# Altium footprint library Pattern No3d 20090609.PcbLib: 323 footprints (part 9 of 22)
Each footprint in its own frame and in the unit in brackets; x right, y up, seen from the top. Pads: shape width x height; smd on the part's side, far side on the other; paste and mask are expansions set on the pad; w line width, h text height; cw(c..) or ccw(c..) is an arc to the next point about the centre after c.
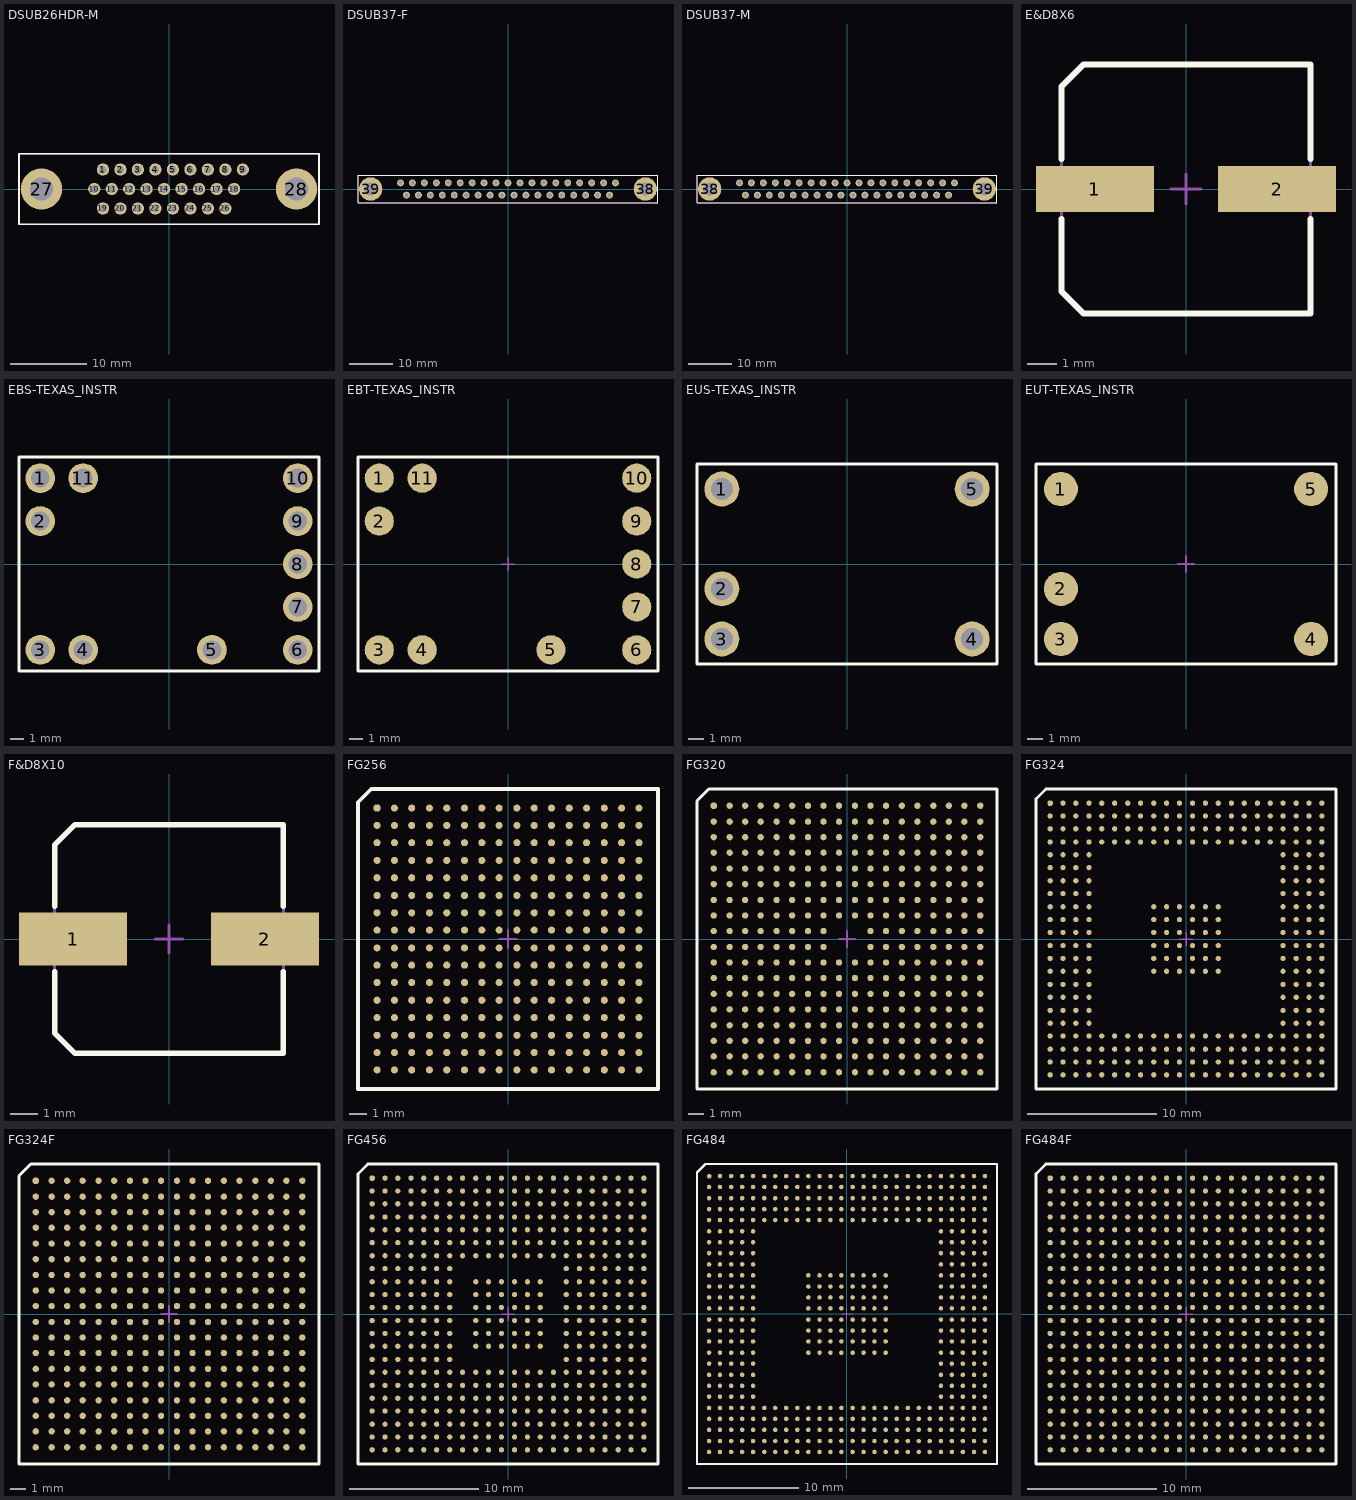
[diagram p8: the footprints below, top view; thin cyan lines are the x and y axes]

## DSUB26HDR-M [mil] "http://www.jst-mfg.com/product/pdf/eng/eD-JK.pdf"
pads (28):
  round 63 hole 39 mask+4: 1(-340,100) 2(-250,100) 3(-160,100) 4(-70,100) 5(20,100) 6(110,100) 7(200,100) 8(290,100) 9(380,100) 10(-385,0) 11(-295,0) 12(-205,0) 13(-115,0) 14(-25,0) 15(65,0) 16(155,0) 17(245,0) 18(335,0) 19(-340,-100) 20(-250,-100) 21(-160,-100) 22(-70,-100) 23(20,-100) 24(110,-100) 25(200,-100) 26(290,-100)
  round 212 hole 120 mask+4: 27(-656,0) 28(656,0)
Top Overlay:
  lines w8: -772,-182 772,-182 772,182 -772,182 -772,-182
Mechanical 1:
  lines w4: -772,-182 772,-182 772,182 -772,182 -772,-182

## DSUB37-F [mil] "http://www.jst-mfg.com/product/pdf/eng/eD-J.pdf"
pads (39):
  round 63 / inner round 63 / far side oval 63x83 hole 39 mask+4: 1(978,56) 2(870,56) 3(761,56) 4(652,56) 5(544,56) 6(435,56) 7(326,56) 8(218,56) 9(109,56) 10(0,56) 11(-109,56) 12(-218,56) 13(-326,56) 14(-435,56) 15(-544,56) 16(-652,56) 17(-761,56) 18(-870,56) 19(-978,56) 20(924,-56) 21(815,-56) 22(707,-56) 23(598,-56) 24(489,-56) 25(381,-56) 26(272,-56) 27(163,-56) 28(55,-56) 29(-55,-56) 30(-163,-56) 31(-272,-56) 32(-381,-56) 33(-489,-56) 34(-598,-56) 35(-707,-56) 36(-815,-56) 37(-924,-56)
  round 212 hole 120 mask+4: 38(1250,0) 39(-1250,0)
Top Overlay:
  lines w8: -1365,-124 1365,-124 1365,124 -1365,124 -1365,-124
Mechanical 1:
  lines w4: -1365,-124 1365,-124 1365,124 -1365,124 -1365,-124

## DSUB37-M [mil] "http://www.jst-mfg.com/product/pdf/eng/eD-J.pdf"
pads (39):
  round 63 / inner round 63 / far side oval 63x83 hole 39 mask+4: 1(-978,56) 2(-870,56) 3(-761,56) 4(-652,56) 5(-544,56) 6(-435,56) 7(-326,56) 8(-218,56) 9(-109,56) 10(0,56) 11(109,56) 12(218,56) 13(326,56) 14(435,56) 15(544,56) 16(652,56) 17(761,56) 18(870,56) 19(978,56) 20(-924,-56) 21(-815,-56) 22(-707,-56) 23(-598,-56) 24(-489,-56) 25(-381,-56) 26(-272,-56) 27(-163,-56) 28(-55,-56) 29(55,-56) 30(163,-56) 31(272,-56) 32(381,-56) 33(489,-56) 34(598,-56) 35(707,-56) 36(815,-56) 37(924,-56)
  round 212 hole 120 mask+4: 38(-1250,0) 39(1250,0)
Top Overlay:
  lines w8: -1365,-124 -1365,124 1365,124 1365,-124 -1365,-124
Mechanical 1:
  lines w4: -1365,-124 -1365,124 1365,124 1365,-124 -1365,-124

## E&D8X6 [mil] "http://www.panasonic.com/industrial/components/pdf/pic_vs_series.pdf (Size E)"
pads (2):
  rect 158x62 smd mask+4: 1(-122,0) 2(122,0)
Top Overlay:
  lines w8: -167,-40 -167,-137 -137,-167 167,-167 167,-40 ; -167,40 -167,137 -137,167 167,167 167,40
Mechanical 1:
  lines w4: -167,-137 -167,137 -137,167 167,167 167,-167 -137,-167 -167,-137
Mechanical 15:
  lines w4: -20,0 20,0 ; 0,-20 0,20

## EBS-TEXAS_INSTR [mil] "http://focus.ti.com/lit/ds/symlink/pth08t240w.pdf (EBS)"
pads (11):
  round 87 hole 55 mask+4: 1(-375,250) 2(-375,125) 3(-375,-250) 4(-250,-250) 5(125,-250) 6(375,-250) 7(375,-125) 8(375,0) 9(375,125) 10(375,250) 11(-250,250)
Top Overlay:
  lines w8: -437,-312 437,-312 437,312 -437,312 -437,-312
Mechanical 1:
  lines w4: -437,-312 437,-312 437,312 -437,312 -437,-312

## EBT-TEXAS_INSTR [mil] "http://focus.ti.com/lit/ds/symlink/pth08t240w.pdf (EBT)"
pads (11):
  round 85 smd mask+4: 1(-375,250) 2(-375,125) 3(-375,-250) 4(-250,-250) 5(125,-250) 6(375,-250) 7(375,-125) 8(375,0) 9(375,125) 10(375,250) 11(-250,250)
Top Overlay:
  lines w8: -437,-312 -437,312 437,312 437,-312 -437,-312
Mechanical 1:
  lines w4: -437,-312 -437,312 437,312 437,-312 -437,-312
Mechanical 15:
  lines w4: -20,0 20,0 ; 0,-20 0,20

## EUS-TEXAS_INSTR [mil] "http://focus.ti.com/lit/ds/symlink/pth03000w.pdf (EUS)"
pads (5):
  round 87 hole 55 mask+4: 1(-312,187) 2(-312,-62) 3(-312,-187) 4(312,-187) 5(312,187)
Top Overlay:
  lines w8: -374,-249 -374,249 374,249 374,-249 -374,-249
Mechanical 1:
  lines w4: -374,-249 -374,249 374,249 374,-249 -374,-249

## EUT-TEXAS_INSTR [mil] "http://focus.ti.com/lit/ds/symlink/pth03000w.pdf (EUT)"
pads (5):
  round 85 smd mask+4: 1(-312,187) 2(-312,-62) 3(-312,-187) 4(312,-187) 5(312,187)
Top Overlay:
  lines w8: -374,-249 -374,249 374,249 374,-249 -374,-249
Mechanical 1:
  lines w4: -374,-249 -374,249 374,249 374,-249 -374,-249
Mechanical 15:
  lines w4: -20,0 20,0 ; 0,-20 0,20

## F&D8X10 [mil] "http://www.panasonic.com/industrial/components/pdf/pic_vs_series.pdf (Size F)"
pads (2):
  rect 158x78 smd mask+4: 1(-140,0) 2(140,0)
Top Overlay:
  lines w8: -167,-48 -167,-137 -137,-167 167,-167 167,-48 ; -167,48 -167,137 -137,167 167,167 167,48
Mechanical 1:
  lines w4: -167,-137 -167,137 -137,167 167,167 167,-167 -137,-167 -167,-137
Mechanical 15:
  lines w4: -20,0 20,0 ; 0,-20 0,20

## FG256 [mil] "http://www.xilinx.com/support/documentation/package_specs/fg256.pdf"
pads (256):
  oct 16x16 smd mask+3: A1(-295,295)
  round 16 smd mask+3: A2(-256,295) A3(-217,295) A4(-177,295) A5(-138,295) A6(-98,295) A7(-59,295) A8(-20,295) A9(20,295) A10(59,295) A11(98,295) A12(138,295) A13(177,295) A14(217,295) A15(256,295) A16(295,295) B1(-295,256) B2(-256,256) B3(-217,256) B4(-177,256) B5(-138,256) B6(-98,256) B7(-59,256) B8(-20,256) B9(20,256) B10(59,256) B11(98,256) B12(138,256) B13(177,256) B14(217,256) B15(256,256) B16(295,256) C1(-295,217) C2(-256,217) C3(-217,217) C4(-177,217) C5(-138,217) C6(-98,217) C7(-59,217) C8(-20,217) C9(20,217) C10(59,217) C11(98,217) C12(138,217) C13(177,217) C14(217,217) C15(256,217) C16(295,217) D1(-295,177) D2(-256,177) D3(-217,177) D4(-177,177) D5(-138,177) D6(-98,177) D7(-59,177) D8(-20,177) D9(20,177) D10(59,177) D11(98,177) D12(138,177) D13(177,177) D14(217,177) D15(256,177) D16(295,177) E1(-295,138) E2(-256,138) E3(-217,138) E4(-177,138) E5(-138,138) E6(-98,138) E7(-59,138) E8(-20,138) E9(20,138) E10(59,138) E11(98,138) E12(138,138) E13(177,138) E14(217,138) E15(256,138) E16(295,138) F1(-295,98) F2(-256,98) F3(-217,98) F4(-177,98) F5(-138,98) F6(-98,98) F7(-59,98) F8(-20,98) F9(20,98) F10(59,98) F11(98,98) F12(138,98) F13(177,98) F14(217,98) F15(256,98) F16(295,98) G1(-295,59) G2(-256,59) G3(-217,59) G4(-177,59) G5(-138,59) G6(-98,59) G7(-59,59) G8(-20,59) G9(20,59) G10(59,59) G11(98,59) G12(138,59) G13(177,59) G14(217,59) G15(256,59) G16(295,59) H1(-295,20) H2(-256,20) H3(-217,20) H4(-177,20) H5(-138,20) H6(-98,20) H7(-59,20) H8(-20,20) H9(20,20) H10(59,20) H11(98,20) H12(138,20) H13(177,20) H14(217,20) H15(256,20) H16(295,20) J1(-295,-20) J2(-256,-20) J3(-217,-20) J4(-177,-20) J5(-138,-20) J6(-98,-20) J7(-59,-20) J8(-20,-20) J9(20,-20) J10(59,-20) J11(98,-20) J12(138,-20) J13(177,-20) J14(217,-20) J15(256,-20) J16(295,-20) K1(-295,-59) K2(-256,-59) K3(-217,-59) K4(-177,-59) K5(-138,-59) K6(-98,-59) K7(-59,-59) K8(-20,-59) K9(20,-59) K10(59,-59) K11(98,-59) K12(138,-59) K13(177,-59) K14(217,-59) K15(256,-59) K16(295,-59) L1(-295,-98) L2(-256,-98) L3(-217,-98) L4(-177,-98) L5(-138,-98) L6(-98,-98) L7(-59,-98) L8(-20,-98) L9(20,-98) L10(59,-98) L11(98,-98) L12(138,-98) L13(177,-98) L14(217,-98) L15(256,-98) L16(295,-98) M1(-295,-138) M2(-256,-138) M3(-217,-138) M4(-177,-138) M5(-138,-138) M6(-98,-138) M7(-59,-138) M8(-20,-138) M9(20,-138) M10(59,-138) M11(98,-138) M12(138,-138) M13(177,-138) M14(217,-138) M15(256,-138) M16(295,-138) N1(-295,-177) N2(-256,-177) N3(-217,-177) N4(-177,-177) N5(-138,-177) N6(-98,-177) N7(-59,-177) N8(-20,-177) N9(20,-177) N10(59,-177) N11(98,-177) N12(138,-177) N13(177,-177) N14(217,-177) N15(256,-177) N16(295,-177) P1(-295,-217) P2(-256,-217) P3(-217,-217) P4(-177,-217) P5(-138,-217) P6(-98,-217) P7(-59,-217) P8(-20,-217) P9(20,-217) P10(59,-217) P11(98,-217) P12(138,-217) P13(177,-217) P14(217,-217) P15(256,-217) P16(295,-217) R1(-295,-256) R2(-256,-256) R3(-217,-256) R4(-177,-256) R5(-138,-256) R6(-98,-256) R7(-59,-256) R8(-20,-256) R9(20,-256) R10(59,-256) R11(98,-256) R12(138,-256) R13(177,-256) R14(217,-256) R15(256,-256) R16(295,-256) T1(-295,-295) T2(-256,-295) T3(-217,-295) T4(-177,-295) T5(-138,-295) T6(-98,-295) T7(-59,-295) T8(-20,-295) T9(20,-295) T10(59,-295) T11(98,-295) T12(138,-295) T13(177,-295) T14(217,-295) T15(256,-295) T16(295,-295)
Top Overlay:
  lines w8: -338,-338 -338,308 -308,338 338,338 338,-338 -338,-338
Mechanical 1:
  lines w4: -338,-338 -338,308 -308,338 338,338 338,-338 -338,-338
Mechanical 15:
  lines w4: -20,0 20,0 ; 0,-20 0,20

## FG320 [mil] "http://www.xilinx.com/support/documentation/package_specs/fg320.pdf"
pads (320):
  oct 16x16 smd mask+3: A1(-335,335)
  round 16 smd mask+3: A2(-295,335) A3(-256,335) A4(-217,335) A5(-177,335) A6(-138,335) A7(-98,335) A8(-59,335) A9(-20,335) A10(20,335) A11(59,335) A12(98,335) A13(138,335) A14(177,335) A15(217,335) A16(256,335) A17(295,335) A18(335,335) B1(-335,295) B2(-295,295) B3(-256,295) B4(-217,295) B5(-177,295) B6(-138,295) B7(-98,295) B8(-59,295) B9(-20,295) B10(20,295) B11(59,295) B12(98,295) B13(138,295) B14(177,295) B15(217,295) B16(256,295) B17(295,295) B18(335,295) C1(-335,256) C2(-295,256) C3(-256,256) C4(-217,256) C5(-177,256) C6(-138,256) C7(-98,256) C8(-59,256) C9(-20,256) C10(20,256) C11(59,256) C12(98,256) C13(138,256) C14(177,256) C15(217,256) C16(256,256) C17(295,256) C18(335,256) D1(-335,217) D2(-295,217) D3(-256,217) D4(-217,217) D5(-177,217) D6(-138,217) D7(-98,217) D8(-59,217) D9(-20,217) D10(20,217) D11(59,217) D12(98,217) D13(138,217) D14(177,217) D15(217,217) D16(256,217) D17(295,217) D18(335,217) E1(-335,177) E2(-295,177) E3(-256,177) E4(-217,177) E5(-177,177) E6(-138,177) E7(-98,177) E8(-59,177) E9(-20,177) E10(20,177) E11(59,177) E12(98,177) E13(138,177) E14(177,177) E15(217,177) E16(256,177) E17(295,177) E18(335,177) F1(-335,138) F2(-295,138) F3(-256,138) F4(-217,138) F5(-177,138) F6(-138,138) F7(-98,138) F8(-59,138) F9(-20,138) F10(20,138) F11(59,138) F12(98,138) F13(138,138) F14(177,138) F15(217,138) F16(256,138) F17(295,138) F18(335,138) G1(-335,98) G2(-295,98) G3(-256,98) G4(-217,98) G5(-177,98) G6(-138,98) G7(-98,98) G8(-59,98) G9(-20,98) G10(20,98) G11(59,98) G12(98,98) G13(138,98) G14(177,98) G15(217,98) G16(256,98) G17(295,98) G18(335,98) H1(-335,59) H2(-295,59) H3(-256,59) H4(-217,59) H5(-177,59) H6(-138,59) H7(-98,59) H8(-59,59) H9(-20,59) H10(20,59) H11(59,59) H12(98,59) H13(138,59) H14(177,59) H15(217,59) H16(256,59) H17(295,59) H18(335,59) J1(-335,20) J2(-295,20) J3(-256,20) J4(-217,20) J5(-177,20) J6(-138,20) J7(-98,20) J8(-59,20) J11(59,20) J12(98,20) J13(138,20) J14(177,20) J15(217,20) J16(256,20) J17(295,20) J18(335,20) K1(-335,-20) K2(-295,-20) K3(-256,-20) K4(-217,-20) K5(-177,-20) K6(-138,-20) K7(-98,-20) K8(-59,-20) K11(59,-20) K12(98,-20) K13(138,-20) K14(177,-20) K15(217,-20) K16(256,-20) K17(295,-20) K18(335,-20) L1(-335,-59) L2(-295,-59) L3(-256,-59) L4(-217,-59) L5(-177,-59) L6(-138,-59) L7(-98,-59) L8(-59,-59) L9(-20,-59) L10(20,-59) L11(59,-59) L12(98,-59) L13(138,-59) L14(177,-59) L15(217,-59) L16(256,-59) L17(295,-59) L18(335,-59) M1(-335,-98) M2(-295,-98) M3(-256,-98) M4(-217,-98) M5(-177,-98) M6(-138,-98) M7(-98,-98) M8(-59,-98) M9(-20,-98) M10(20,-98) M11(59,-98) M12(98,-98) M13(138,-98) M14(177,-98) M15(217,-98) M16(256,-98) M17(295,-98) M18(335,-98) N1(-335,-138) N2(-295,-138) N3(-256,-138) N4(-217,-138) N5(-177,-138) N6(-138,-138) N7(-98,-138) N8(-59,-138) N9(-20,-138) N10(20,-138) N11(59,-138) N12(98,-138) N13(138,-138) N14(177,-138) N15(217,-138) N16(256,-138) N17(295,-138) N18(335,-138) P1(-335,-177) P2(-295,-177) P3(-256,-177) P4(-217,-177) P5(-177,-177) P6(-138,-177) P7(-98,-177) P8(-59,-177) P9(-20,-177) P10(20,-177) P11(59,-177) P12(98,-177) P13(138,-177) P14(177,-177) P15(217,-177) P16(256,-177) P17(295,-177) P18(335,-177) R1(-335,-217) R2(-295,-217) R3(-256,-217) R4(-217,-217) R5(-177,-217) R6(-138,-217) R7(-98,-217) R8(-59,-217) R9(-20,-217) R10(20,-217) R11(59,-217) R12(98,-217) R13(138,-217) R14(177,-217) R15(217,-217) R16(256,-217) R17(295,-217) R18(335,-217) T1(-335,-256) T2(-295,-256) T3(-256,-256) T4(-217,-256) T5(-177,-256) T6(-138,-256) T7(-98,-256) T8(-59,-256) T9(-20,-256) T10(20,-256) T11(59,-256) T12(98,-256) T13(138,-256) T14(177,-256) T15(217,-256) T16(256,-256) T17(295,-256) T18(335,-256) U1(-335,-295) U2(-295,-295) U3(-256,-295) U4(-217,-295) U5(-177,-295) U6(-138,-295) U7(-98,-295) U8(-59,-295) U9(-20,-295) U10(20,-295) U11(59,-295) U12(98,-295) U13(138,-295) U14(177,-295) U15(217,-295) U16(256,-295) U17(295,-295) U18(335,-295) V1(-335,-335) V2(-295,-335) V3(-256,-335) V4(-217,-335) V5(-177,-335) V6(-138,-335) V7(-98,-335) V8(-59,-335) V9(-20,-335) V10(20,-335) V11(59,-335) V12(98,-335) V13(138,-335) V14(177,-335) V15(217,-335) V16(256,-335) V17(295,-335) V18(335,-335)
Top Overlay:
  lines w8: -377,-377 -377,347 -347,377 377,377 377,-377 -377,-377
Mechanical 1:
  lines w4: -377,-377 -377,347 -347,377 377,377 377,-377 -377,-377
Mechanical 15:
  lines w4: -20,0 20,0 ; 0,-20 0,20

## FG324 [mil] "http://www.xilinx.com/support/documentation/package_specs/fg324.pdf"
pads (324):
  oct 16x16 smd mask+3: A1(-413,413)
  round 16 smd mask+3: A2(-374,413) A3(-335,413) A4(-295,413) A5(-256,413) A6(-217,413) A7(-177,413) A8(-138,413) A9(-98,413) A10(-59,413) A11(-20,413) A12(20,413) A13(59,413) A14(98,413) A15(138,413) A16(177,413) A17(217,413) A18(256,413) A19(295,413) A20(335,413) A21(374,413) A22(413,413) AA1(-413,-374) AA2(-374,-374) AA3(-335,-374) AA4(-295,-374) AA5(-256,-374) AA6(-217,-374) AA7(-177,-374) AA8(-138,-374) AA9(-98,-374) AA10(-59,-374) AA11(-20,-374) AA12(20,-374) AA13(59,-374) AA14(98,-374) AA15(138,-374) AA16(177,-374) AA17(217,-374) AA18(256,-374) AA19(295,-374) AA20(335,-374) AA21(374,-374) AA22(413,-374) AB1(-413,-413) AB2(-374,-413) AB3(-335,-413) AB4(-295,-413) AB5(-256,-413) AB6(-217,-413) AB7(-177,-413) AB8(-138,-413) AB9(-98,-413) AB10(-59,-413) AB11(-20,-413) AB12(20,-413) AB13(59,-413) AB14(98,-413) AB15(138,-413) AB16(177,-413) AB17(217,-413) AB18(256,-413) AB19(295,-413) AB20(335,-413) AB21(374,-413) AB22(413,-413) B1(-413,374) B2(-374,374) B3(-335,374) B4(-295,374) B5(-256,374) B6(-217,374) B7(-177,374) B8(-138,374) B9(-98,374) B10(-59,374) B11(-20,374) B12(20,374) B13(59,374) B14(98,374) B15(138,374) B16(177,374) B17(217,374) B18(256,374) B19(295,374) B20(335,374) B21(374,374) B22(413,374) C1(-413,335) C2(-374,335) C3(-335,335) C4(-295,335) C5(-256,335) C6(-217,335) C7(-177,335) C8(-138,335) C9(-98,335) C10(-59,335) C11(-20,335) C12(20,335) C13(59,335) C14(98,335) C15(138,335) C16(177,335) C17(217,335) C18(256,335) C19(295,335) C20(335,335) C21(374,335) C22(413,335) D1(-413,295) D2(-374,295) D3(-335,295) D4(-295,295) D5(-256,295) D6(-217,295) D7(-177,295) D8(-138,295) D9(-98,295) D10(-59,295) D11(-20,295) D12(20,295) D13(59,295) D14(98,295) D15(138,295) D16(177,295) D17(217,295) D18(256,295) D19(295,295) D20(335,295) D21(374,295) D22(413,295) E1(-413,256) E2(-374,256) E3(-335,256) E4(-295,256) E19(295,256) E20(335,256) E21(374,256) E22(413,256) F1(-413,217) F2(-374,217) F3(-335,217) F4(-295,217) F19(295,217) F20(335,217) F21(374,217) F22(413,217) G1(-413,177) G2(-374,177) G3(-335,177) G4(-295,177) G19(295,177) G20(335,177) G21(374,177) G22(413,177) H1(-413,138) H2(-374,138) H3(-335,138) H4(-295,138) H19(295,138) H20(335,138) H21(374,138) H22(413,138) J1(-413,98) J2(-374,98) J3(-335,98) J4(-295,98) J9(-98,98) J10(-59,98) J11(-20,98) J12(20,98) J13(59,98) J14(98,98) J19(295,98) J20(335,98) J21(374,98) J22(413,98) K1(-413,59) K2(-374,59) K3(-335,59) K4(-295,59) K9(-98,59) K10(-59,59) K11(-20,59) K12(20,59) K13(59,59) K14(98,59) K19(295,59) K20(335,59) K21(374,59) K22(413,59) L1(-413,20) L2(-374,20) L3(-335,20) L4(-295,20) L9(-98,20) L10(-59,20) L11(-20,20) L12(20,20) L13(59,20) L14(98,20) L19(295,20) L20(335,20) L21(374,20) L22(413,20) M1(-413,-20) M2(-374,-20) M3(-335,-20) M4(-295,-20) M9(-98,-20) M10(-59,-20) M11(-20,-20) M12(20,-20) M13(59,-20) M14(98,-20) M19(295,-20) M20(335,-20) M21(374,-20) M22(413,-20) N1(-413,-59) N2(-374,-59) N3(-335,-59) N4(-295,-59) N9(-98,-59) N10(-59,-59) N11(-20,-59) N12(20,-59) N13(59,-59) N14(98,-59) N19(295,-59) N20(335,-59) N21(374,-59) N22(413,-59) P1(-413,-98) P2(-374,-98) P3(-335,-98) P4(-295,-98) P9(-98,-98) P10(-59,-98) P11(-20,-98) P12(20,-98) P13(59,-98) P14(98,-98) P19(295,-98) P20(335,-98) P21(374,-98) P22(413,-98) R1(-413,-138) R2(-374,-138) R3(-335,-138) R4(-295,-138) R19(295,-138) R20(335,-138) R21(374,-138) R22(413,-138) T1(-413,-177) T2(-374,-177) T3(-335,-177) T4(-295,-177) T19(295,-177) T20(335,-177) T21(374,-177) T22(413,-177) U1(-413,-217) U2(-374,-217) U3(-335,-217) U4(-295,-217) U19(295,-217) U20(335,-217) U21(374,-217) U22(413,-217) V1(-413,-256) V2(-374,-256) V3(-335,-256) V4(-295,-256) V19(295,-256) V20(335,-256) V21(374,-256) V22(413,-256) W1(-413,-295) W2(-374,-295) W3(-335,-295) W4(-295,-295) W5(-256,-295) W6(-217,-295) W7(-177,-295) W8(-138,-295) W9(-98,-295) W10(-59,-295) W11(-20,-295) W12(20,-295) W13(59,-295) W14(98,-295) W15(138,-295) W16(177,-295) W17(217,-295) W18(256,-295) W19(295,-295) W20(335,-295) W21(374,-295) W22(413,-295) Y1(-413,-335) Y2(-374,-335) Y3(-335,-335) Y4(-295,-335) Y5(-256,-335) Y6(-217,-335) Y7(-177,-335) Y8(-138,-335) Y9(-98,-335) Y10(-59,-335) Y11(-20,-335) Y12(20,-335) Y13(59,-335) Y14(98,-335) Y15(138,-335) Y16(177,-335) Y17(217,-335) Y18(256,-335) Y19(295,-335) Y20(335,-335) Y21(374,-335) Y22(413,-335)
Top Overlay:
  lines w8: -456,-456 -456,426 -426,456 456,456 456,-456 -456,-456
Mechanical 1:
  lines w4: -456,-456 -456,426 -426,456 456,456 456,-456 -456,-456
Mechanical 15:
  lines w4: -20,0 20,0 ; 0,-20 0,20

## FG324F [mil] "http://www.xilinx.com/support/documentation/package_specs/ff324.pdf"
pads (324):
  oct 16x16 smd mask+3: A1(-335,335)
  round 16 smd mask+3: A2(-295,335) A3(-256,335) A4(-217,335) A5(-177,335) A6(-138,335) A7(-98,335) A8(-59,335) A9(-20,335) A10(20,335) A11(59,335) A12(98,335) A13(138,335) A14(177,335) A15(217,335) A16(256,335) A17(295,335) A18(335,335) B1(-335,295) B2(-295,295) B3(-256,295) B4(-217,295) B5(-177,295) B6(-138,295) B7(-98,295) B8(-59,295) B9(-20,295) B10(20,295) B11(59,295) B12(98,295) B13(138,295) B14(177,295) B15(217,295) B16(256,295) B17(295,295) B18(335,295) C1(-335,256) C2(-295,256) C3(-256,256) C4(-217,256) C5(-177,256) C6(-138,256) C7(-98,256) C8(-59,256) C9(-20,256) C10(20,256) C11(59,256) C12(98,256) C13(138,256) C14(177,256) C15(217,256) C16(256,256) C17(295,256) C18(335,256) D1(-335,217) D2(-295,217) D3(-256,217) D4(-217,217) D5(-177,217) D6(-138,217) D7(-98,217) D8(-59,217) D9(-20,217) D10(20,217) D11(59,217) D12(98,217) D13(138,217) D14(177,217) D15(217,217) D16(256,217) D17(295,217) D18(335,217) E1(-335,177) E2(-295,177) E3(-256,177) E4(-217,177) E5(-177,177) E6(-138,177) E7(-98,177) E8(-59,177) E9(-20,177) E10(20,177) E11(59,177) E12(98,177) E13(138,177) E14(177,177) E15(217,177) E16(256,177) E17(295,177) E18(335,177) F1(-335,138) F2(-295,138) F3(-256,138) F4(-217,138) F5(-177,138) F6(-138,138) F7(-98,138) F8(-59,138) F9(-20,138) F10(20,138) F11(59,138) F12(98,138) F13(138,138) F14(177,138) F15(217,138) F16(256,138) F17(295,138) F18(335,138) G1(-335,98) G2(-295,98) G3(-256,98) G4(-217,98) G5(-177,98) G6(-138,98) G7(-98,98) G8(-59,98) G9(-20,98) G10(20,98) G11(59,98) G12(98,98) G13(138,98) G14(177,98) G15(217,98) G16(256,98) G17(295,98) G18(335,98) H1(-335,59) H2(-295,59) H3(-256,59) H4(-217,59) H5(-177,59) H6(-138,59) H7(-98,59) H8(-59,59) H9(-20,59) H10(20,59) H11(59,59) H12(98,59) H13(138,59) H14(177,59) H15(217,59) H16(256,59) H17(295,59) H18(335,59) J1(-335,20) J2(-295,20) J3(-256,20) J4(-217,20) J5(-177,20) J6(-138,20) J7(-98,20) J8(-59,20) J9(-20,20) J10(20,20) J11(59,20) J12(98,20) J13(138,20) J14(177,20) J15(217,20) J16(256,20) J17(295,20) J18(335,20) K1(-335,-20) K2(-295,-20) K3(-256,-20) K4(-217,-20) K5(-177,-20) K6(-138,-20) K7(-98,-20) K8(-59,-20) K9(-20,-20) K10(20,-20) K11(59,-20) K12(98,-20) K13(138,-20) K14(177,-20) K15(217,-20) K16(256,-20) K17(295,-20) K18(335,-20) L1(-335,-59) L2(-295,-59) L3(-256,-59) L4(-217,-59) L5(-177,-59) L6(-138,-59) L7(-98,-59) L8(-59,-59) L9(-20,-59) L10(20,-59) L11(59,-59) L12(98,-59) L13(138,-59) L14(177,-59) L15(217,-59) L16(256,-59) L17(295,-59) L18(335,-59) M1(-335,-98) M2(-295,-98) M3(-256,-98) M4(-217,-98) M5(-177,-98) M6(-138,-98) M7(-98,-98) M8(-59,-98) M9(-20,-98) M10(20,-98) M11(59,-98) M12(98,-98) M13(138,-98) M14(177,-98) M15(217,-98) M16(256,-98) M17(295,-98) M18(335,-98) N1(-335,-138) N2(-295,-138) N3(-256,-138) N4(-217,-138) N5(-177,-138) N6(-138,-138) N7(-98,-138) N8(-59,-138) N9(-20,-138) N10(20,-138) N11(59,-138) N12(98,-138) N13(138,-138) N14(177,-138) N15(217,-138) N16(256,-138) N17(295,-138) N18(335,-138) P1(-335,-177) P2(-295,-177) P3(-256,-177) P4(-217,-177) P5(-177,-177) P6(-138,-177) P7(-98,-177) P8(-59,-177) P9(-20,-177) P10(20,-177) P11(59,-177) P12(98,-177) P13(138,-177) P14(177,-177) P15(217,-177) P16(256,-177) P17(295,-177) P18(335,-177) R1(-335,-217) R2(-295,-217) R3(-256,-217) R4(-217,-217) R5(-177,-217) R6(-138,-217) R7(-98,-217) R8(-59,-217) R9(-20,-217) R10(20,-217) R11(59,-217) R12(98,-217) R13(138,-217) R14(177,-217) R15(217,-217) R16(256,-217) R17(295,-217) R18(335,-217) T1(-335,-256) T2(-295,-256) T3(-256,-256) T4(-217,-256) T5(-177,-256) T6(-138,-256) T7(-98,-256) T8(-59,-256) T9(-20,-256) T10(20,-256) T11(59,-256) T12(98,-256) T13(138,-256) T14(177,-256) T15(217,-256) T16(256,-256) T17(295,-256) T18(335,-256) U1(-335,-295) U2(-295,-295) U3(-256,-295) U4(-217,-295) U5(-177,-295) U6(-138,-295) U7(-98,-295) U8(-59,-295) U9(-20,-295) U10(20,-295) U11(59,-295) U12(98,-295) U13(138,-295) U14(177,-295) U15(217,-295) U16(256,-295) U17(295,-295) U18(335,-295) V1(-335,-335) V2(-295,-335) V3(-256,-335) V4(-217,-335) V5(-177,-335) V6(-138,-335) V7(-98,-335) V8(-59,-335) V9(-20,-335) V10(20,-335) V11(59,-335) V12(98,-335) V13(138,-335) V14(177,-335) V15(217,-335) V16(256,-335) V17(295,-335) V18(335,-335)
Top Overlay:
  lines w8: -377,-377 377,-377 377,377 -347,377 -377,347 -377,-377
Mechanical 1:
  lines w4: -377,-377 377,-377 377,377 -347,377 -377,347 -377,-377
Mechanical 15:
  lines w4: -20,0 20,0 ; 0,-20 0,20

## FG456 [mil] "http://www.xilinx.com/support/documentation/package_specs/fg456.pdf"
pads (456):
  oct 16x16 smd mask+3: A1(-413,413)
  round 16 smd mask+3: A2(-374,413) A3(-335,413) A4(-295,413) A5(-256,413) A6(-217,413) A7(-177,413) A8(-138,413) A9(-98,413) A10(-59,413) A11(-20,413) A12(20,413) A13(59,413) A14(98,413) A15(138,413) A16(177,413) A17(217,413) A18(256,413) A19(295,413) A20(335,413) A21(374,413) A22(413,413) AA1(-413,-374) AA2(-374,-374) AA3(-335,-374) AA4(-295,-374) AA5(-256,-374) AA6(-217,-374) AA7(-177,-374) AA8(-138,-374) AA9(-98,-374) AA10(-59,-374) AA11(-20,-374) AA12(20,-374) AA13(59,-374) AA14(98,-374) AA15(138,-374) AA16(177,-374) AA17(217,-374) AA18(256,-374) AA19(295,-374) AA20(335,-374) AA21(374,-374) AA22(413,-374) AB1(-413,-413) AB2(-374,-413) AB3(-335,-413) AB4(-295,-413) AB5(-256,-413) AB6(-217,-413) AB7(-177,-413) AB8(-138,-413) AB9(-98,-413) AB10(-59,-413) AB11(-20,-413) AB12(20,-413) AB13(59,-413) AB14(98,-413) AB15(138,-413) AB16(177,-413) AB17(217,-413) AB18(256,-413) AB19(295,-413) AB20(335,-413) AB21(374,-413) AB22(413,-413) B1(-413,374) B2(-374,374) B3(-335,374) B4(-295,374) B5(-256,374) B6(-217,374) B7(-177,374) B8(-138,374) B9(-98,374) B10(-59,374) B11(-20,374) B12(20,374) B13(59,374) B14(98,374) B15(138,374) B16(177,374) B17(217,374) B18(256,374) B19(295,374) B20(335,374) B21(374,374) B22(413,374) C1(-413,335) C2(-374,335) C3(-335,335) C4(-295,335) C5(-256,335) C6(-217,335) C7(-177,335) C8(-138,335) C9(-98,335) C10(-59,335) C11(-20,335) C12(20,335) C13(59,335) C14(98,335) C15(138,335) C16(177,335) C17(217,335) C18(256,335) C19(295,335) C20(335,335) C21(374,335) C22(413,335) D1(-413,295) D2(-374,295) D3(-335,295) D4(-295,295) D5(-256,295) D6(-217,295) D7(-177,295) D8(-138,295) D9(-98,295) D10(-59,295) D11(-20,295) D12(20,295) D13(59,295) D14(98,295) D15(138,295) D16(177,295) D17(217,295) D18(256,295) D19(295,295) D20(335,295) D21(374,295) D22(413,295) E1(-413,256) E2(-374,256) E3(-335,256) E4(-295,256) E5(-256,256) E6(-217,256) E7(-177,256) E8(-138,256) E9(-98,256) E10(-59,256) E11(-20,256) E12(20,256) E13(59,256) E14(98,256) E15(138,256) E16(177,256) E17(217,256) E18(256,256) E19(295,256) E20(335,256) E21(374,256) E22(413,256) F1(-413,217) F2(-374,217) F3(-335,217) F4(-295,217) F5(-256,217) F6(-217,217) F7(-177,217) F8(-138,217) F9(-98,217) F10(-59,217) F11(-20,217) F12(20,217) F13(59,217) F14(98,217) F15(138,217) F16(177,217) F17(217,217) F18(256,217) F19(295,217) F20(335,217) F21(374,217) F22(413,217) G1(-413,177) G2(-374,177) G3(-335,177) G4(-295,177) G5(-256,177) G6(-217,177) G7(-177,177) G8(-138,177) G9(-98,177) G10(-59,177) G11(-20,177) G12(20,177) G13(59,177) G14(98,177) G15(138,177) G16(177,177) G17(217,177) G18(256,177) G19(295,177) G20(335,177) G21(374,177) G22(413,177) H1(-413,138) H2(-374,138) H3(-335,138) H4(-295,138) H5(-256,138) H6(-217,138) H7(-177,138) H16(177,138) H17(217,138) H18(256,138) H19(295,138) H20(335,138) H21(374,138) H22(413,138) J1(-413,98) J2(-374,98) J3(-335,98) J4(-295,98) J5(-256,98) J6(-217,98) J7(-177,98) J9(-98,98) J10(-59,98) J11(-20,98) J12(20,98) J13(59,98) J14(98,98) J16(177,98) J17(217,98) J18(256,98) J19(295,98) J20(335,98) J21(374,98) J22(413,98) K1(-413,59) K2(-374,59) K3(-335,59) K4(-295,59) K5(-256,59) K6(-217,59) K7(-177,59) K9(-98,59) K10(-59,59) K11(-20,59) K12(20,59) K13(59,59) K14(98,59) K16(177,59) K17(217,59) K18(256,59) K19(295,59) K20(335,59) K21(374,59) K22(413,59) L1(-413,20) L2(-374,20) L3(-335,20) L4(-295,20) L5(-256,20) L6(-217,20) L7(-177,20) L9(-98,20) L10(-59,20) L11(-20,20) L12(20,20) L13(59,20) L14(98,20) L16(177,20) L17(217,20) L18(256,20) L19(295,20) L20(335,20) L21(374,20) L22(413,20) M1(-413,-20) M2(-374,-20) M3(-335,-20) M4(-295,-20) M5(-256,-20) M6(-217,-20) M7(-177,-20) M9(-98,-20) M10(-59,-20) M11(-20,-20) M12(20,-20) M13(59,-20) M14(98,-20) M16(177,-20) M17(217,-20) M18(256,-20) M19(295,-20) M20(335,-20) M21(374,-20) M22(413,-20) N1(-413,-59) N2(-374,-59) N3(-335,-59) N4(-295,-59) N5(-256,-59) N6(-217,-59) N7(-177,-59) N9(-98,-59) N10(-59,-59) N11(-20,-59) N12(20,-59) N13(59,-59) N14(98,-59) N16(177,-59) N17(217,-59) N18(256,-59) N19(295,-59) N20(335,-59) N21(374,-59) N22(413,-59) P1(-413,-98) P2(-374,-98) P3(-335,-98) P4(-295,-98) P5(-256,-98) P6(-217,-98) P7(-177,-98) P9(-98,-98) P10(-59,-98) P11(-20,-98) P12(20,-98) P13(59,-98) P14(98,-98) P16(177,-98) P17(217,-98) P18(256,-98) P19(295,-98) P20(335,-98) P21(374,-98) P22(413,-98) R1(-413,-138) R2(-374,-138) R3(-335,-138) R4(-295,-138) R5(-256,-138) R6(-217,-138) R7(-177,-138) R16(177,-138) R17(217,-138) R18(256,-138) R19(295,-138) R20(335,-138) R21(374,-138) R22(413,-138) T1(-413,-177) T2(-374,-177) T3(-335,-177) T4(-295,-177) T5(-256,-177) T6(-217,-177) T7(-177,-177) T8(-138,-177) T9(-98,-177) T10(-59,-177) T11(-20,-177) T12(20,-177) T13(59,-177) T14(98,-177) T15(138,-177) T16(177,-177) T17(217,-177) T18(256,-177) T19(295,-177) T20(335,-177) T21(374,-177) T22(413,-177) U1(-413,-217) U2(-374,-217) U3(-335,-217) U4(-295,-217) U5(-256,-217) U6(-217,-217) U7(-177,-217) U8(-138,-217) U9(-98,-217) U10(-59,-217) U11(-20,-217) U12(20,-217) U13(59,-217) U14(98,-217) U15(138,-217) U16(177,-217) U17(217,-217) U18(256,-217) U19(295,-217) U20(335,-217) U21(374,-217) U22(413,-217) V1(-413,-256) V2(-374,-256) V3(-335,-256) V4(-295,-256) V5(-256,-256) V6(-217,-256) V7(-177,-256) V8(-138,-256) V9(-98,-256) V10(-59,-256) V11(-20,-256) V12(20,-256) V13(59,-256) V14(98,-256) V15(138,-256) V16(177,-256) V17(217,-256) V18(256,-256) V19(295,-256) V20(335,-256) V21(374,-256) V22(413,-256) W1(-413,-295) W2(-374,-295) W3(-335,-295) W4(-295,-295) W5(-256,-295) W6(-217,-295) W7(-177,-295) W8(-138,-295) W9(-98,-295) W10(-59,-295) W11(-20,-295) W12(20,-295) W13(59,-295) W14(98,-295) W15(138,-295) W16(177,-295) W17(217,-295) W18(256,-295) W19(295,-295) W20(335,-295) W21(374,-295) W22(413,-295) Y1(-413,-335) Y2(-374,-335) Y3(-335,-335) Y4(-295,-335) Y5(-256,-335) Y6(-217,-335) Y7(-177,-335) Y8(-138,-335) Y9(-98,-335) Y10(-59,-335) Y11(-20,-335) Y12(20,-335) Y13(59,-335) Y14(98,-335) Y15(138,-335) Y16(177,-335) Y17(217,-335) Y18(256,-335) Y19(295,-335) Y20(335,-335) Y21(374,-335) Y22(413,-335)
Top Overlay:
  lines w8: -456,-456 456,-456 456,456 -426,456 -456,426 -456,-456
Mechanical 1:
  lines w4: -456,-456 456,-456 456,456 -426,456 -456,426 -456,-456
Mechanical 15:
  lines w4: -20,0 20,0 ; 0,-20 0,20

## FG484 [mil] "http://www.actel.com/documents/PckgMechDrwngs.pdf (FBGA 484)"
pads (484):
  oct 16x16 smd mask+3: A1(-492,492)
  round 16 smd mask+3: A2(-453,492) A3(-413,492) A4(-374,492) A5(-335,492) A6(-295,492) A7(-256,492) A8(-217,492) A9(-177,492) A10(-138,492) A11(-98,492) A12(-59,492) A13(-20,492) A14(20,492) A15(59,492) A16(98,492) A17(138,492) A18(177,492) A19(217,492) A20(256,492) A21(295,492) A22(335,492) A23(374,492) A24(413,492) A25(453,492) A26(492,492) AA1(-492,-295) AA2(-453,-295) AA3(-413,-295) AA4(-374,-295) AA5(-335,-295) AA22(335,-295) AA23(374,-295) AA24(413,-295) AA25(453,-295) AA26(492,-295) AB1(-492,-335) AB2(-453,-335) AB3(-413,-335) AB4(-374,-335) AB5(-335,-335) AB6(-295,-335) AB7(-256,-335) AB8(-217,-335) AB9(-177,-335) AB10(-138,-335) AB11(-98,-335) AB12(-59,-335) AB13(-20,-335) AB14(20,-335) AB15(59,-335) AB16(98,-335) AB17(138,-335) AB18(177,-335) AB19(217,-335) AB20(256,-335) AB21(295,-335) AB22(335,-335) AB23(374,-335) AB24(413,-335) AB25(453,-335) AB26(492,-335) AC1(-492,-374) AC2(-453,-374) AC3(-413,-374) AC4(-374,-374) AC5(-335,-374) AC6(-295,-374) AC7(-256,-374) AC8(-217,-374) AC9(-177,-374) AC10(-138,-374) AC11(-98,-374) AC12(-59,-374) AC13(-20,-374) AC14(20,-374) AC15(59,-374) AC16(98,-374) AC17(138,-374) AC18(177,-374) AC19(217,-374) AC20(256,-374) AC21(295,-374) AC22(335,-374) AC23(374,-374) AC24(413,-374) AC25(453,-374) AC26(492,-374) AD1(-492,-413) AD2(-453,-413) AD3(-413,-413) AD4(-374,-413) AD5(-335,-413) AD6(-295,-413) AD7(-256,-413) AD8(-217,-413) AD9(-177,-413) AD10(-138,-413) AD11(-98,-413) AD12(-59,-413) AD13(-20,-413) AD14(20,-413) AD15(59,-413) AD16(98,-413) AD17(138,-413) AD18(177,-413) AD19(217,-413) AD20(256,-413) AD21(295,-413) AD22(335,-413) AD23(374,-413) AD24(413,-413) AD25(453,-413) AD26(492,-413) AE1(-492,-453) AE2(-453,-453) AE3(-413,-453) AE4(-374,-453) AE5(-335,-453) AE6(-295,-453) AE7(-256,-453) AE8(-217,-453) AE9(-177,-453) AE10(-138,-453) AE11(-98,-453) AE12(-59,-453) AE13(-20,-453) AE14(20,-453) AE15(59,-453) AE16(98,-453) AE17(138,-453) AE18(177,-453) AE19(217,-453) AE20(256,-453) AE21(295,-453) AE22(335,-453) AE23(374,-453) AE24(413,-453) AE25(453,-453) AE26(492,-453) AF1(-492,-492) AF2(-453,-492) AF3(-413,-492) AF4(-374,-492) AF5(-335,-492) AF6(-295,-492) AF7(-256,-492) AF8(-217,-492) AF9(-177,-492) AF10(-138,-492) AF11(-98,-492) AF12(-59,-492) AF13(-20,-492) AF14(20,-492) AF15(59,-492) AF16(98,-492) AF17(138,-492) AF18(177,-492) AF19(217,-492) AF20(256,-492) AF21(295,-492) AF22(335,-492) AF23(374,-492) AF24(413,-492) AF25(453,-492) AF26(492,-492) B1(-492,453) B2(-453,453) B3(-413,453) B4(-374,453) B5(-335,453) B6(-295,453) B7(-256,453) B8(-217,453) B9(-177,453) B10(-138,453) B11(-98,453) B12(-59,453) B13(-20,453) B14(20,453) B15(59,453) B16(98,453) B17(138,453) B18(177,453) B19(217,453) B20(256,453) B21(295,453) B22(335,453) B23(374,453) B24(413,453) B25(453,453) B26(492,453) C1(-492,413) C2(-453,413) C3(-413,413) C4(-374,413) C5(-335,413) C6(-295,413) C7(-256,413) C8(-217,413) C9(-177,413) C10(-138,413) C11(-98,413) C12(-59,413) C13(-20,413) C14(20,413) C15(59,413) C16(98,413) C17(138,413) C18(177,413) C19(217,413) C20(256,413) C21(295,413) C22(335,413) C23(374,413) C24(413,413) C25(453,413) C26(492,413) D1(-492,374) D2(-453,374) D3(-413,374) D4(-374,374) D5(-335,374) D6(-295,374) D7(-256,374) D8(-217,374) D9(-177,374) D10(-138,374) D11(-98,374) D12(-59,374) D13(-20,374) D14(20,374) D15(59,374) D16(98,374) D17(138,374) D18(177,374) D19(217,374) D20(256,374) D21(295,374) D22(335,374) D23(374,374) D24(413,374) D25(453,374) D26(492,374) E1(-492,335) E2(-453,335) E3(-413,335) E4(-374,335) E5(-335,335) E6(-295,335) E7(-256,335) E8(-217,335) E9(-177,335) E10(-138,335) E11(-98,335) E12(-59,335) E13(-20,335) E14(20,335) E15(59,335) E16(98,335) E17(138,335) E18(177,335) E19(217,335) E20(256,335) E21(295,335) E22(335,335) E23(374,335) E24(413,335) E25(453,335) E26(492,335) F1(-492,295) F2(-453,295) F3(-413,295) F4(-374,295) F5(-335,295) F22(335,295) F23(374,295) F24(413,295) F25(453,295) F26(492,295) G1(-492,256) G2(-453,256) G3(-413,256) G4(-374,256) G5(-335,256) G22(335,256) G23(374,256) G24(413,256) G25(453,256) G26(492,256) H1(-492,217) H2(-453,217) H3(-413,217) H4(-374,217) H5(-335,217) H22(335,217) H23(374,217) H24(413,217) H25(453,217) H26(492,217) J1(-492,177) J2(-453,177) J3(-413,177) J4(-374,177) J5(-335,177) J22(335,177) J23(374,177) J24(413,177) J25(453,177) J26(492,177) K1(-492,138) K2(-453,138) K3(-413,138) K4(-374,138) K5(-335,138) K10(-138,138) K11(-98,138) K12(-59,138) K13(-20,138) K14(20,138) K15(59,138) K16(98,138) K17(138,138) K22(335,138) K23(374,138) K24(413,138) K25(453,138) K26(492,138) L1(-492,98) L2(-453,98) L3(-413,98) L4(-374,98) L5(-335,98) L10(-138,98) L11(-98,98) L12(-59,98) L13(-20,98) L14(20,98) L15(59,98) L16(98,98) L17(138,98) L22(335,98) L23(374,98) L24(413,98) L25(453,98) L26(492,98) M1(-492,59) M2(-453,59) M3(-413,59) M4(-374,59) M5(-335,59) M10(-138,59) M11(-98,59) M12(-59,59) M13(-20,59) M14(20,59) M15(59,59) M16(98,59) M17(138,59) M22(335,59) M23(374,59) M24(413,59) M25(453,59) M26(492,59) N1(-492,20) N2(-453,20) N3(-413,20) N4(-374,20) N5(-335,20) N10(-138,20) N11(-98,20) N12(-59,20) N13(-20,20) N14(20,20) N15(59,20) N16(98,20) N17(138,20) N22(335,20) N23(374,20) N24(413,20) N25(453,20) N26(492,20) P1(-492,-20) P2(-453,-20) P3(-413,-20) P4(-374,-20) P5(-335,-20) P10(-138,-20) P11(-98,-20) P12(-59,-20) P13(-20,-20) P14(20,-20) P15(59,-20) P16(98,-20) P17(138,-20) P22(335,-20) P23(374,-20) P24(413,-20) P25(453,-20) P26(492,-20) R1(-492,-59) R2(-453,-59) R3(-413,-59) R4(-374,-59) R5(-335,-59) R10(-138,-59) R11(-98,-59) R12(-59,-59) R13(-20,-59) R14(20,-59) R15(59,-59) R16(98,-59) R17(138,-59) R22(335,-59) R23(374,-59) R24(413,-59) R25(453,-59) R26(492,-59) T1(-492,-98) T2(-453,-98) T3(-413,-98) T4(-374,-98) T5(-335,-98) T10(-138,-98) T11(-98,-98) T12(-59,-98) T13(-20,-98) T14(20,-98) T15(59,-98) T16(98,-98) T17(138,-98) T22(335,-98) T23(374,-98) T24(413,-98) T25(453,-98) T26(492,-98) U1(-492,-138) U2(-453,-138) U3(-413,-138) U4(-374,-138) U5(-335,-138) U10(-138,-138) U11(-98,-138) U12(-59,-138) U13(-20,-138) U14(20,-138) U15(59,-138) U16(98,-138) U17(138,-138) U22(335,-138) U23(374,-138) U24(413,-138) U25(453,-138) U26(492,-138) V1(-492,-177) V2(-453,-177) V3(-413,-177) V4(-374,-177) V5(-335,-177) V22(335,-177) V23(374,-177) V24(413,-177) V25(453,-177) V26(492,-177) W1(-492,-217) W2(-453,-217) W3(-413,-217) W4(-374,-217) W5(-335,-217) W22(335,-217) W23(374,-217) W24(413,-217) W25(453,-217) W26(492,-217) Y1(-492,-256) Y2(-453,-256) Y3(-413,-256) Y4(-374,-256) Y5(-335,-256) Y22(335,-256) Y23(374,-256) Y24(413,-256) Y25(453,-256) Y26(492,-256)
Top Overlay:
  lines w8: -535,-535 535,-535 535,535 -505,535 -535,505 -535,-535
Mechanical 1:
  lines w4: -535,-535 535,-535 535,535 -505,535 -535,505 -535,-535
Mechanical 15:
  lines w4: -20,0 20,0 ; 0,-20 0,20

## FG484F [mil] "http://www.xilinx.com/support/documentation/package_specs/fg484.pdf"
pads (484):
  oct 16x16 smd mask+3: A1(-413,413)
  round 16 smd mask+3: A2(-374,413) A3(-335,413) A4(-295,413) A5(-256,413) A6(-217,413) A7(-177,413) A8(-138,413) A9(-98,413) A10(-59,413) A11(-20,413) A12(20,413) A13(59,413) A14(98,413) A15(138,413) A16(177,413) A17(217,413) A18(256,413) A19(295,413) A20(335,413) A21(374,413) A22(413,413) AA1(-413,-374) AA2(-374,-374) AA3(-335,-374) AA4(-295,-374) AA5(-256,-374) AA6(-217,-374) AA7(-177,-374) AA8(-138,-374) AA9(-98,-374) AA10(-59,-374) AA11(-20,-374) AA12(20,-374) AA13(59,-374) AA14(98,-374) AA15(138,-374) AA16(177,-374) AA17(217,-374) AA18(256,-374) AA19(295,-374) AA20(335,-374) AA21(374,-374) AA22(413,-374) AB1(-413,-413) AB2(-374,-413) AB3(-335,-413) AB4(-295,-413) AB5(-256,-413) AB6(-217,-413) AB7(-177,-413) AB8(-138,-413) AB9(-98,-413) AB10(-59,-413) AB11(-20,-413) AB12(20,-413) AB13(59,-413) AB14(98,-413) AB15(138,-413) AB16(177,-413) AB17(217,-413) AB18(256,-413) AB19(295,-413) AB20(335,-413) AB21(374,-413) AB22(413,-413) B1(-413,374) B2(-374,374) B3(-335,374) B4(-295,374) B5(-256,374) B6(-217,374) B7(-177,374) B8(-138,374) B9(-98,374) B10(-59,374) B11(-20,374) B12(20,374) B13(59,374) B14(98,374) B15(138,374) B16(177,374) B17(217,374) B18(256,374) B19(295,374) B20(335,374) B21(374,374) B22(413,374) C1(-413,335) C2(-374,335) C3(-335,335) C4(-295,335) C5(-256,335) C6(-217,335) C7(-177,335) C8(-138,335) C9(-98,335) C10(-59,335) C11(-20,335) C12(20,335) C13(59,335) C14(98,335) C15(138,335) C16(177,335) C17(217,335) C18(256,335) C19(295,335) C20(335,335) C21(374,335) C22(413,335) D1(-413,295) D2(-374,295) D3(-335,295) D4(-295,295) D5(-256,295) D6(-217,295) D7(-177,295) D8(-138,295) D9(-98,295) D10(-59,295) D11(-20,295) D12(20,295) D13(59,295) D14(98,295) D15(138,295) D16(177,295) D17(217,295) D18(256,295) D19(295,295) D20(335,295) D21(374,295) D22(413,295) E1(-413,256) E2(-374,256) E3(-335,256) E4(-295,256) E5(-256,256) E6(-217,256) E7(-177,256) E8(-138,256) E9(-98,256) E10(-59,256) E11(-20,256) E12(20,256) E13(59,256) E14(98,256) E15(138,256) E16(177,256) E17(217,256) E18(256,256) E19(295,256) E20(335,256) E21(374,256) E22(413,256) F1(-413,217) F2(-374,217) F3(-335,217) F4(-295,217) F5(-256,217) F6(-217,217) F7(-177,217) F8(-138,217) F9(-98,217) F10(-59,217) F11(-20,217) F12(20,217) F13(59,217) F14(98,217) F15(138,217) F16(177,217) F17(217,217) F18(256,217) F19(295,217) F20(335,217) F21(374,217) F22(413,217) G1(-413,177) G2(-374,177) G3(-335,177) G4(-295,177) G5(-256,177) G6(-217,177) G7(-177,177) G8(-138,177) G9(-98,177) G10(-59,177) G11(-20,177) G12(20,177) G13(59,177) G14(98,177) G15(138,177) G16(177,177) G17(217,177) G18(256,177) G19(295,177) G20(335,177) G21(374,177) G22(413,177) H1(-413,138) H2(-374,138) H3(-335,138) H4(-295,138) H5(-256,138) H6(-217,138) H7(-177,138) H8(-138,138) H9(-98,138) H10(-59,138) H11(-20,138) H12(20,138) H13(59,138) H14(98,138) H15(138,138) H16(177,138) H17(217,138) H18(256,138) H19(295,138) H20(335,138) H21(374,138) H22(413,138) J1(-413,98) J2(-374,98) J3(-335,98) J4(-295,98) J5(-256,98) J6(-217,98) J7(-177,98) J8(-138,98) J9(-98,98) J10(-59,98) J11(-20,98) J12(20,98) J13(59,98) J14(98,98) J15(138,98) J16(177,98) J17(217,98) J18(256,98) J19(295,98) J20(335,98) J21(374,98) J22(413,98) K1(-413,59) K2(-374,59) K3(-335,59) K4(-295,59) K5(-256,59) K6(-217,59) K7(-177,59) K8(-138,59) K9(-98,59) K10(-59,59) K11(-20,59) K12(20,59) K13(59,59) K14(98,59) K15(138,59) K16(177,59) K17(217,59) K18(256,59) K19(295,59) K20(335,59) K21(374,59) K22(413,59) L1(-413,20) L2(-374,20) L3(-335,20) L4(-295,20) L5(-256,20) L6(-217,20) L7(-177,20) L8(-138,20) L9(-98,20) L10(-59,20) L11(-20,20) L12(20,20) L13(59,20) L14(98,20) L15(138,20) L16(177,20) L17(217,20) L18(256,20) L19(295,20) L20(335,20) L21(374,20) L22(413,20) M1(-413,-20) M2(-374,-20) M3(-335,-20) M4(-295,-20) M5(-256,-20) M6(-217,-20) M7(-177,-20) M8(-138,-20) M9(-98,-20) M10(-59,-20) M11(-20,-20) M12(20,-20) M13(59,-20) M14(98,-20) M15(138,-20) M16(177,-20) M17(217,-20) M18(256,-20) M19(295,-20) M20(335,-20) M21(374,-20) M22(413,-20) N1(-413,-59) N2(-374,-59) N3(-335,-59) N4(-295,-59) N5(-256,-59) N6(-217,-59) N7(-177,-59) N8(-138,-59) N9(-98,-59) N10(-59,-59) N11(-20,-59) N12(20,-59) N13(59,-59) N14(98,-59) N15(138,-59) N16(177,-59) N17(217,-59) N18(256,-59) N19(295,-59) N20(335,-59) N21(374,-59) N22(413,-59) P1(-413,-98) P2(-374,-98) P3(-335,-98) P4(-295,-98) P5(-256,-98) P6(-217,-98) P7(-177,-98) P8(-138,-98) P9(-98,-98) P10(-59,-98) P11(-20,-98) P12(20,-98) P13(59,-98) P14(98,-98) P15(138,-98) P16(177,-98) P17(217,-98) P18(256,-98) P19(295,-98) P20(335,-98) P21(374,-98) P22(413,-98) R1(-413,-138) R2(-374,-138) R3(-335,-138) R4(-295,-138) R5(-256,-138) R6(-217,-138) R7(-177,-138) R8(-138,-138) R9(-98,-138) R10(-59,-138) R11(-20,-138) R12(20,-138) R13(59,-138) R14(98,-138) R15(138,-138) R16(177,-138) R17(217,-138) R18(256,-138) R19(295,-138) R20(335,-138) R21(374,-138) R22(413,-138) T1(-413,-177) T2(-374,-177) T3(-335,-177) T4(-295,-177) T5(-256,-177) T6(-217,-177) T7(-177,-177) T8(-138,-177) T9(-98,-177) T10(-59,-177) T11(-20,-177) T12(20,-177) T13(59,-177) T14(98,-177) T15(138,-177) T16(177,-177) T17(217,-177) T18(256,-177) T19(295,-177) T20(335,-177) T21(374,-177) T22(413,-177) U1(-413,-217) U2(-374,-217) U3(-335,-217) U4(-295,-217) U5(-256,-217) U6(-217,-217) U7(-177,-217) U8(-138,-217) U9(-98,-217) U10(-59,-217) U11(-20,-217) U12(20,-217) U13(59,-217) U14(98,-217) U15(138,-217) U16(177,-217) U17(217,-217) U18(256,-217) U19(295,-217) U20(335,-217) U21(374,-217) U22(413,-217) V1(-413,-256) V2(-374,-256) V3(-335,-256) V4(-295,-256) V5(-256,-256) V6(-217,-256) V7(-177,-256) V8(-138,-256) V9(-98,-256) V10(-59,-256) V11(-20,-256) V12(20,-256) V13(59,-256) V14(98,-256) V15(138,-256) V16(177,-256) V17(217,-256) V18(256,-256) V19(295,-256) V20(335,-256) V21(374,-256) V22(413,-256) W1(-413,-295) W2(-374,-295) W3(-335,-295) W4(-295,-295) W5(-256,-295) W6(-217,-295) W7(-177,-295) W8(-138,-295) W9(-98,-295) W10(-59,-295) W11(-20,-295) W12(20,-295) W13(59,-295) W14(98,-295) W15(138,-295) W16(177,-295) W17(217,-295) W18(256,-295) W19(295,-295) W20(335,-295) W21(374,-295) W22(413,-295) Y1(-413,-335) Y2(-374,-335) Y3(-335,-335) Y4(-295,-335) Y5(-256,-335) Y6(-217,-335) Y7(-177,-335) Y8(-138,-335) Y9(-98,-335) Y10(-59,-335) Y11(-20,-335) Y12(20,-335) Y13(59,-335) Y14(98,-335) Y15(138,-335) Y16(177,-335) Y17(217,-335) Y18(256,-335) Y19(295,-335) Y20(335,-335) Y21(374,-335) Y22(413,-335)
Top Overlay:
  lines w8: -456,-456 456,-456 456,456 -426,456 -456,426 -456,-456
Mechanical 1:
  lines w4: -456,-456 456,-456 456,456 -426,456 -456,426 -456,-456
Mechanical 15:
  lines w4: -20,0 20,0 ; 0,-20 0,20